# Altium schematic symbol library 农联网.SchLib: 9 symbols
Pins are listed as number, name and electrical type; pins without a type are passive.

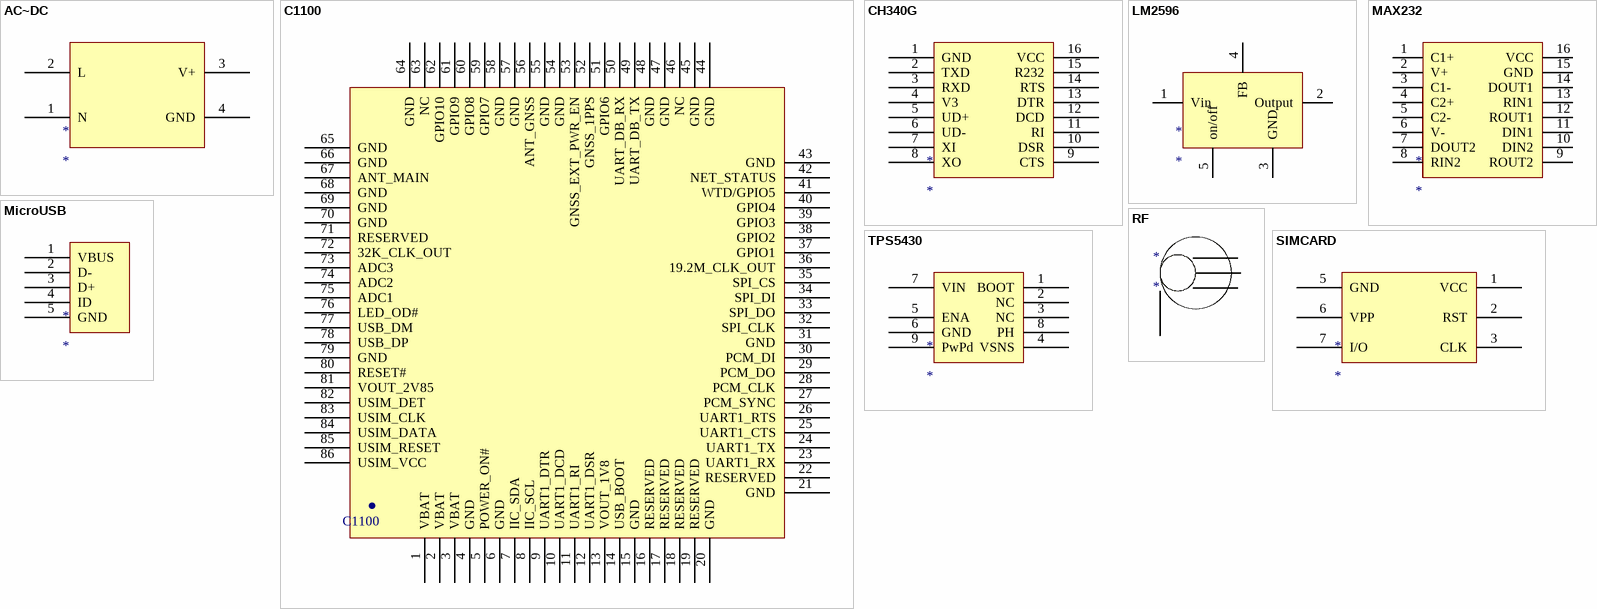
[diagram p0: symbols AC~DC to TPS5430]

## AC~DC
designator *
pins: 1 N, 2 L, 3 V+, 4 GND

## C1100
designator C1100  (value not drawn)
pins: 1 VBAT, 2 VBAT, 3 VBAT, 4 GND, 5 POWER_ON#, 6 GND, 7 IIC_SDA, 8 IIC_SCL, 9 UART1_DTR, 10 UART1_DCD, 11 UART1_RI, 12 UART1_DSR, 13 VOUT_1V8, 14 USB_BOOT, 15 GND, 16 RESERVED, 17 RESERVED, 18 RESERVED, 19 RESERVED, 20 GND, 21 GND, 22 RESERVED, 23 UART1_RX, 24 UART1_TX, 25 UART1_CTS, 26 UART1_RTS, 27 PCM_SYNC, 28 PCM_CLK, 29 PCM_DO, 30 PCM_DI, 31 GND, 32 SPI_CLK, 33 SPI_DO, 34 SPI_DI, 35 SPI_CS, 36 19.2M_CLK_OUT, 37 GPIO1, 38 GPIO2, 39 GPIO3, 40 GPIO4, 41 WTD/GPIO5, 42 NET_STATUS, 43 GND, 44 GND, 45 GND, 46 NC, 47 GND, 48 GND, 49 UART_DB_TX, 50 UART_DB_RX, 51 GPIO6, 52 GNSS_1PPS, 53 GNSS_EXT_PWR_EN, 54 GND, 55 GND, 56 ANT_GNSS, 57 GND, 58 GND, 59 GPIO7, 60 GPIO8, 61 GPIO9, 62 GPIO10, 63 NC, 64 GND, 65 GND, 66 GND, 67 ANT_MAIN, 68 GND, 69 GND, 70 GND, 71 RESERVED, 72 32K_CLK_OUT, 73 ADC3, 74 ADC2, 75 ADC1, 76 LED_OD#, 77 USB_DM, 78 USB_DP, 79 GND, 80 RESET#, 81 VOUT_2V85, 82 USIM_DET, 83 USIM_CLK, 84 USIM_DATA, 85 USIM_RESET, 86 USIM_VCC
text: .

## CH340G
designator *
pins: 1 GND, 2 TXD, 3 RXD, 4 V3, 5 UD+, 6 UD-, 7 XI, 8 XO, 9 CTS, 10 DSR, 11 RI, 12 DCD, 13 DTR, 14 RTS, 15 R232, 16 VCC

## LM2596
designator *
pins: 1 Vin, 2 Output, 3 GND, 4 FB, 5 on/off

## MAX232
designator *
pins: 1 C1+, 2 V+, 3 C1-, 4 C2+, 5 C2-, 6 V-, 7 DOUT2, 8 RIN2, 9 ROUT2, 10 DIN2, 11 DIN1, 12 ROUT1, 13 RIN1, 14 DOUT1, 15 GND, 16 VCC

## MicroUSB
designator *
pins: 1 VBUS, 2 D-, 3 D+, 4 ID, 5 GND

## RF
designator *
pins: 0, 1, 2, 3

## SIMCARD
designator *
pins: 1 VCC, 2 RST, 3 CLK, 5 GND, 6 VPP, 7 I/O

## TPS5430
designator *
pins: 1 BOOT, 2 NC, 3 NC, 4 VSNS, 5 ENA, 6 GND, 7 VIN, 8 PH, 9 PwPd